# EAGLE library part ADP1610ARMZ-R7 (library ADP1610ARMZ-R7)
Switching Voltage Regulators 1.2 MHz PWM Boost Switching Regulator Source: Datasheet <https://www.analog.com/media/en/technical-documentation/data-sheets/ADP1610.pdf>
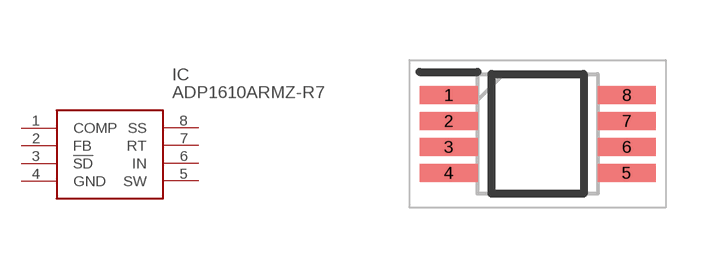
[diagram p0: symbol with the pads of SOP65P490X110-8N; footprint SOP65P490X110-8N]

Designator prefix IC

## ADP1610ARMZ-R7 (Description: Switching Voltage Regulators 1.2 MHz PWM Boost Switching Regulator; Height: 1.1mm; Manufacturer_Name: Analog Devices; Manufacturer_Part_Number: ADP1610ARMZ-R7; Mouser_Part_Number: 584-ADP1610ARMZ-R7; Mouser_Price-Stock: https://www.mouser.co.uk/ProductDetail/Analog-Devices/ADP1610ARMZ-R7?qs=WIvQP4zGanjTQwiTj85NkQ%3D%3D)  [SOP65P490X110-8N]
1  COMP
2  FB
3  !SD
4  GND
5  SW
6  IN
7  RT
8  SS

## Footprint SOP65P490X110-8N (pad centres in mm)
RM-8
smd 1.45 x 0.45: 1 -2.225,0.975; 2 -2.225,0.325; 3 -2.225,-0.325; 4 -2.225,-0.975; 5 2.225,-0.975; 6 2.225,-0.325; 7 2.225,0.325; 8 2.225,0.975